# Altium footprint library NEW_PCB_2021-12-20.PcbLib: 1 footprints
Each footprint in its own frame and in the unit in brackets; x right, y up, seen from the top. Pads: shape width x height; smd on the part's side, far side on the other; paste and mask are expansions set on the pad; w line width, h text height; cw(c..) or ccw(c..) is an arc to the next point about the centre after c.
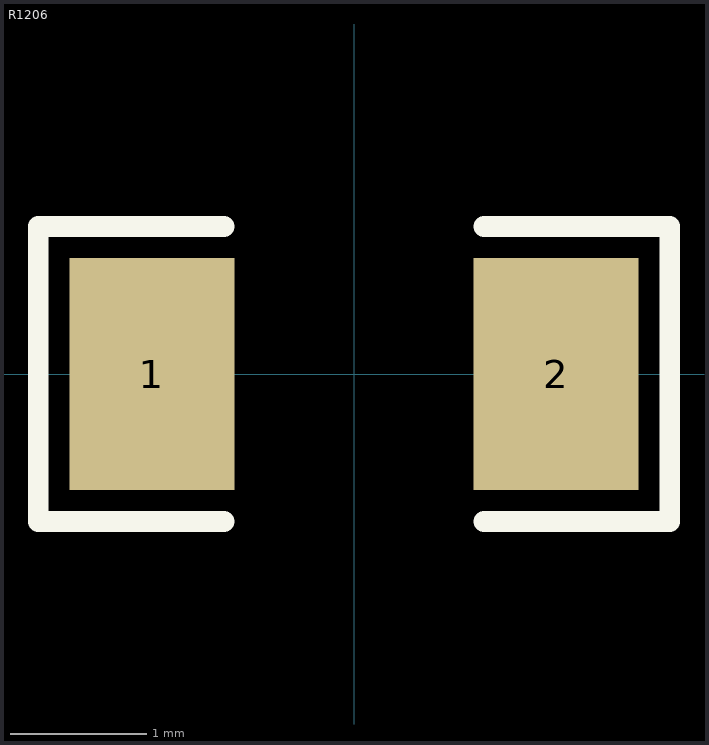
[diagram p0: the footprint, top view; thin cyan lines are the x and y axes]

## R1206 [mm]
pads (2):
  rect 1.208x1.701 smd: 1(-1.479,0) 2(1.479,0)
Top Overlay:
  lines w0.152: -0.951,-1.079 -2.311,-1.079 -2.311,1.079 -0.951,1.079 ; 0.951,-1.079 2.311,-1.079 2.311,1.079 0.951,1.079
Top Paste:
  region: -0.875,-0.75 -0.875,-0.389 -0.975,-0.289 -1.186,-0.289 -1.286,-0.189 -1.286,0.189 -1.186,0.289 -0.975,0.289 -0.875,0.389 -0.875,0.75 -0.975,0.85 -1.983,0.85 -2.083,0.75 -2.083,-0.75 -1.983,-0.85 -0.975,-0.85
  region: 0.875,-0.75 0.875,-0.389 0.975,-0.289 1.186,-0.289 1.286,-0.189 1.286,0.189 1.186,0.289 0.975,0.289 0.875,0.389 0.875,0.75 0.975,0.85 1.983,0.85 2.083,0.75 2.083,-0.75 1.983,-0.85 0.975,-0.85